# Altium footprint library DK_LOCK_V1.0.PcbLib: 19 footprints (part 1 of 2)
Each footprint in its own frame and in the unit in brackets; x right, y up, seen from the top. Pads: shape width x height; smd on the part's side, far side on the other; paste and mask are expansions set on the pad; w line width, h text height; cw(c..) or ccw(c..) is an arc to the next point about the centre after c.
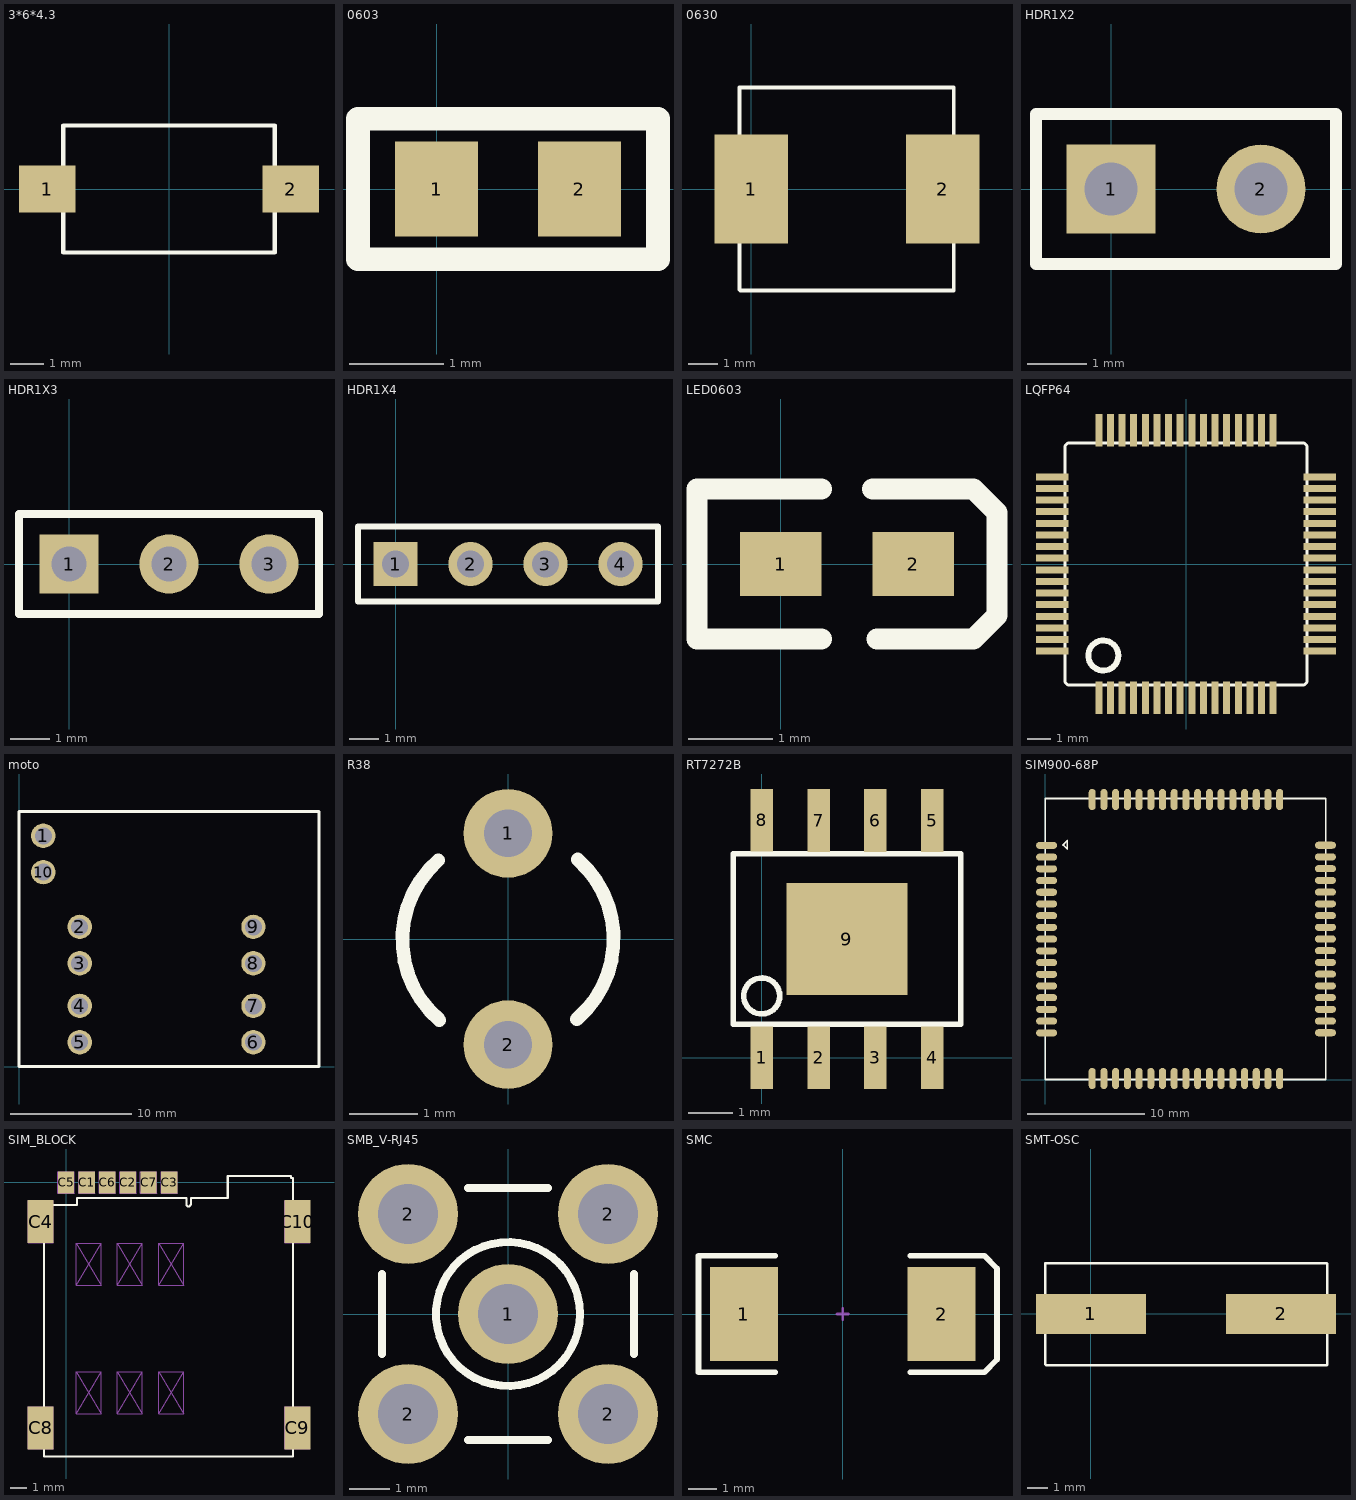
[diagram p0: the footprints below, top view; thin cyan lines are the x and y axes]

## 3*6*4.3 [mm]
pads (2):
  rect 1.7x1.4 smd: 1(-3.65,0) 2(3.65,0)
Top Overlay:
  lines w0.127: -3.175,-1.905 -3.175,1.905 3.175,1.905 3.175,-1.905 -3.175,-1.905

## 0603 [mil]
pads (2):
  rect 35x40 smd: 1(0,0) 2(60,0)
Top Overlay:
  lines w10: 10,-29.53 92.99,-29.53 92.99,29.53 10,29.53 ; 18,-29.53 -32.99,-29.53 -32.99,29.53 18,29.53

## 0630 [mm]
pads (2):
  rect 2.5x3.7 smd: 1(0,0) 2(6.5,0)
Top Overlay:
  lines w0.127: -0.408,-3.429 -0.408,3.454 6.882,3.454 6.882,-3.454 -0.382,-3.454

## HDR1X2 [mm] "Connector; Header; 2 Position"
pads (2):
  rect 1.5x1.5 hole 0.9: 1(0,0)
  round 1.5 hole 0.9: 2(2.54,0)
Top Overlay:
  lines w0.2: -1.27,-1.27 -1.27,1.27 3.81,1.27 3.81,-1.27 -1.27,-1.27

## HDR1X3 [mm] "Connector; Header; 3 Position"
pads (3):
  rect 1.5x1.5 hole 0.9: 1(0,0)
  round 1.5 hole 0.9: 2(2.54,0) 3(5.08,0)
Top Overlay:
  lines w0.2: -1.27,-1.27 -1.27,1.27 6.35,1.27 6.35,-1.27 -1.27,-1.27

## HDR1X4 [mm] "Connector; Header; 4 Position"
pads (4):
  rect 1.5x1.5 hole 0.9: 1(0,0)
  round 1.5 hole 0.9: 2(2.54,0) 3(5.08,0) 4(7.62,0)
Top Overlay:
  lines w0.2: -1.27,-1.27 8.89,-1.27 8.89,1.27 -1.27,1.27 -1.27,-1.27

## LED0603 [mil]
pads (2):
  rect 38x30 smd: 1(0,0) 2(62,0)
Top Overlay:
  lines w10: 19,-35 -39,-35 -39,35 19,35 ; 43,35 90,35 101,24 101,-24 90,-35 45,-35

## LQFP64 [mm]
pads (64):
  rect 0.3x1.4 smd: 1(-3.75,-5.75) 2(-3.25,-5.75) 3(-2.75,-5.75) 4(-2.25,-5.75) 5(-1.75,-5.75) 6(-1.25,-5.75) 7(-0.75,-5.75) 8(-0.25,-5.75) 9(0.25,-5.75) 10(0.75,-5.75) 11(1.25,-5.75) 12(1.75,-5.75) 13(2.25,-5.75) 14(2.75,-5.75) 15(3.25,-5.75) 16(3.75,-5.75) 33(3.75,5.75) 34(3.25,5.75) 35(2.75,5.75) 36(2.25,5.75) 37(1.75,5.75) 38(1.25,5.75) 39(0.75,5.75) 40(0.25,5.75) 41(-0.25,5.75) 42(-0.75,5.75) 43(-1.25,5.75) 44(-1.75,5.75) 45(-2.25,5.75) 46(-2.75,5.75) 47(-3.25,5.75) 48(-3.75,5.75)
  rect 1.4x0.3 smd: 17(5.75,-3.75) 18(5.75,-3.25) 19(5.75,-2.75) 20(5.75,-2.25) 21(5.75,-1.75) 22(5.75,-1.25) 23(5.75,-0.75) 24(5.75,-0.25) 25(5.75,0.25) 26(5.75,0.75) 27(5.75,1.25) 28(5.75,1.75) 29(5.75,2.25) 30(5.75,2.75) 31(5.75,3.25) 32(5.75,3.75) 49(-5.75,3.75) 50(-5.75,3.25) 51(-5.75,2.75) 52(-5.75,2.25) 53(-5.75,1.75) 54(-5.75,1.25) 55(-5.75,0.75) 56(-5.75,0.25) 57(-5.75,-0.25) 58(-5.75,-0.75) 59(-5.75,-1.25) 60(-5.75,-1.75) 61(-5.75,-2.25) 62(-5.75,-2.75) 63(-5.75,-3.25) 64(-5.75,-3.75)
Top Overlay:
  circle w0.254: c-3.556,-3.937 r0.648
  lines w0.127: -5.207,-5.08 -5.08,-5.207 5.08,-5.207 5.207,-5.08 5.207,5.08 5.08,5.207 -5.08,5.207 -5.207,5.08 -5.207,-5.08

## moto [mm]
pads (10):
  round 2 hole 1.4: 1(2,19) 2(5,11.5) 3(5,8.5) 4(5,5) 5(5,2) 6(19.3,2) 7(19.3,5) 8(19.3,8.5) 9(19.3,11.5) 10(2,16)
Top Overlay:
  lines w0.254: 0,0 0,21 24.7,21 24.7,0 0,0

## R38 [mm] "Crystal, Thru-Hole; 2 Leads; Body 3.1 x 8.2 mm (Dia.xH)"
height 8.2
pads (2):
  round 1.3 hole 0.7: 1(0,1.55) 2(0,-1.55)
Top Overlay:
  lines w0.2: -1.022,1.155 ccw(c0,-0.01) -1.006,-1.189 ; 1.006,-1.179 ccw(c0,0) 1.022,1.165

## RT7272B [mm]
pads (9):
  rect 0.5x1.4 smd: 1(0,0) 2(1.27,0) 3(2.54,0) 4(3.81,0) 5(3.81,5.3) 6(2.54,5.3) 7(1.27,5.3) 8(0,5.304)
  rect 2.7x2.5 smd: 9(1.905,2.65)
Top Overlay:
  circle w0.127: c0,1.38 r0.402
  lines w0.127: -0.635,0.745 -0.635,4.555 4.445,4.555 4.445,0.745 -0.635,0.745

## SIM900-68P [mm]
pads (68):
  oval 1.8x0.6 smd: 1(0.11,19.99) 2(0.11,18.99) 3(0.11,17.99) 4(0.11,16.99) 5(0.11,15.99) 6(0.11,14.99) 7(0.11,13.99) 8(0.11,12.99) 9(0.11,11.99) 10(0.11,10.99) 11(0.11,9.99) 12(0.11,8.99) 13(0.11,7.99) 14(0.11,6.99) 15(0.11,5.99) 16(0.11,4.99) 17(0.11,3.99) 35(23.9,4) 36(23.9,5) 37(23.9,6) 38(23.9,7) 39(23.9,8) 40(23.9,9) 41(23.9,10) 42(23.9,11) 43(23.9,12) 44(23.9,13) 45(23.9,14) 46(23.9,15) 47(23.9,16) 48(23.9,17) 49(23.9,18) 50(23.9,19) 51(23.9,20)
  oval 0.6x1.8 smd: 18(4,0.1) 19(5,0.1) 20(6,0.1) 21(7,0.1) 22(8,0.1) 23(9,0.1) 24(10,0.1) 25(11,0.1) 26(12,0.1) 27(13,0.1) 28(14,0.1) 29(15,0.1) 30(16,0.1) 31(17,0.1) 32(18,0.1) 33(19,0.1) 34(20,0.1) 52(20,23.9) 53(19,23.9) 54(18,23.9) 55(17,23.9) 56(16,23.9) 57(15,23.9) 58(14,23.9) 59(13,23.9) 60(12,23.9) 61(11,23.9) 62(10,23.9) 63(9,23.9) 64(8,23.9) 65(7,23.9) 66(6,23.9) 67(5,23.9) 68(4,23.9)
Top Overlay:
  lines w0.15: 1.48,20.01 1.88,20.41 1.88,19.68 1.51,20.05 ; -0.01,0.01 -0.01,24 23.92,24 23.92,0.01 -0.01,0.01

## SIM_BLOCK [mm]
pads (10):
  rect 1x1.35 smd: C1(1.27,0) C2(3.81,0) C3(6.35,0) C5(0,0) C6(2.54,0) C7(5.08,0)
  rect 1.6x2.65 smd: C4(-1.575,-2.413) C8(-1.575,-15.113) C9(14.249,-15.113) C10(14.249,-2.413)
Top Overlay:
  lines w0.127: -1.793,-16.155 -1.368,-16.155 -1.368,-16.872 13.961,-16.872 13.961,-16.155 14.386,-16.155 14.386,-14.052 13.961,-14.052 13.961,-3.478 14.386,-3.478 14.386,-1.375 13.961,-1.375 13.961,0.285 13.855,0.285 13.855,0.411 9.954,0.411 9.954,-0.965 7.68,-0.965 7.68,-1.337 cw(c7.542,-1.337) 7.404,-1.337 7.404,-0.965 0.668,-0.965 0.668,-1.375 -1.793,-1.375 -1.793,-3.478 -1.368,-3.478 -1.368,-14.052 -1.793,-14.052 -1.793,-16.155
Mechanical 1:
  lines w0.013: -2.335,-16.405 -0.785,-13.805 ; -2.335,-16.405 -2.335,-13.805 ; -2.335,-16.405 -0.785,-16.405 ; -2.335,-13.805 -0.785,-16.405 ; -2.335,-13.805 -0.785,-13.805 ; -2.335,-3.725 -0.785,-1.125 ; -2.335,-3.725 -2.335,-1.125 ; -2.335,-3.725 -0.785,-3.725 ; -2.335,-1.125 -0.785,-3.725 ; -2.335,-1.125 -0.785,-1.125 ; -0.785,-16.405 -0.785,-13.805 ; -0.785,-3.725 -0.785,-1.125 ; -0.5,-0.675 0.5,0.675 ; -0.5,-0.675 -0.5,0.675 ; -0.5,-0.675 0.5,-0.675 ; -0.5,0.675 0.5,-0.675 ; -0.5,0.675 0.5,0.675 ; 0.5,-0.675 0.5,0.675 ; 0.615,-14.255 2.165,-11.655 ; 0.615,-14.255 0.615,-11.655 ; 0.615,-14.255 2.165,-14.255 ; 0.615,-11.655 2.165,-14.255 ; 0.615,-11.655 2.165,-11.655 ; 0.615,-6.335 2.165,-3.735 ; 0.615,-6.335 0.615,-3.735 ; 0.615,-6.335 2.165,-6.335 ; 0.615,-3.735 2.165,-6.335 ; 0.615,-3.735 2.165,-3.735 ; 0.77,-0.675 1.77,0.675 ; 0.77,-0.675 0.77,0.675 ; 0.77,-0.675 1.77,-0.675 ; 0.77,0.675 1.77,-0.675 ; 0.77,0.675 1.77,0.675 ; 1.77,-0.675 1.77,0.675 ; 2.04,-0.675 3.04,0.675 ; 2.04,-0.675 2.04,0.675 ; 2.04,-0.675 3.04,-0.675 ; 2.04,0.675 3.04,-0.675 ; 2.04,0.675 3.04,0.675 ; 2.165,-14.255 2.165,-11.655 ; 2.165,-6.335 2.165,-3.735 ; 3.04,-0.675 3.04,0.675 ; 3.155,-14.255 4.705,-11.655 ; 3.155,-14.255 3.155,-11.655 ; 3.155,-14.255 4.705,-14.255 ; 3.155,-11.655 4.705,-14.255 ; 3.155,-11.655 4.705,-11.655 ; 3.155,-6.335 4.705,-3.735 ; 3.155,-6.335 3.155,-3.735 ; 3.155,-6.335 4.705,-6.335 ; 3.155,-3.735 4.705,-6.335 ; 3.155,-3.735 4.705,-3.735 ; 3.31,-0.675 4.31,0.675 ; 3.31,-0.675 3.31,0.675 ; 3.31,-0.675 4.31,-0.675 ; 3.31,0.675 4.31,-0.675 ; 3.31,0.675 4.31,0.675 ; 4.31,-0.675 4.31,0.675 ; 4.58,-0.675 5.58,0.675 ; 4.58,-0.675 4.58,0.675 ; 4.58,-0.675 5.58,-0.675 ; 4.58,0.675 5.58,-0.675 ; 4.58,0.675 5.58,0.675 ; 4.705,-14.255 4.705,-11.655 ; 4.705,-6.335 4.705,-3.735 ; 5.58,-0.675 5.58,0.675 ; 5.695,-14.255 7.245,-11.655 ; 5.695,-14.255 5.695,-11.655 ; 5.695,-14.255 7.245,-14.255 ; 5.695,-11.655 7.245,-14.255 ; 5.695,-11.655 7.245,-11.655 ; 5.695,-6.335 7.245,-3.735 ; 5.695,-6.335 5.695,-3.735 ; 5.695,-6.335 7.245,-6.335 ; 5.695,-3.735 7.245,-6.335 ; 5.695,-3.735 7.245,-3.735 ; 5.85,-0.675 6.85,0.675 ; 5.85,-0.675 5.85,0.675 ; 5.85,-0.675 6.85,-0.675 ; 5.85,0.675 6.85,-0.675 ; 5.85,0.675 6.85,0.675 ; 6.85,-0.675 6.85,0.675 ; 7.245,-14.255 7.245,-11.655 ; 7.245,-6.335 7.245,-3.735 ; 13.465,-16.405 15.015,-13.805 ; 13.465,-16.405 13.465,-13.805 ; 13.465,-16.405 15.015,-16.405 ; 13.465,-13.805 15.015,-16.405 ; 13.465,-13.805 15.015,-13.805 ; 13.465,-3.725 15.015,-1.125 ; 13.465,-3.725 13.465,-1.125 ; 13.465,-3.725 15.015,-3.725 ; 13.465,-1.125 15.015,-3.725 ; 13.465,-1.125 15.015,-1.125 ; 15.015,-16.405 15.015,-13.805 ; 15.015,-3.725 15.015,-1.125

## SMB_V-RJ45 [mm] "Connector; SMB Straight"
pads (5):
  round 2.5 hole 1.5: 1(0,0) 2(-2.5,-2.5) 2(-2.5,2.5) 2(2.5,-2.5) 2(2.5,2.5)
Top Overlay:
  circle w0.2: c0,0 r1.8
  lines w0.2: -3.15,-1 -3.15,1 ; -1,-3.15 1,-3.15 ; -1,3.15 1,3.15 ; 3.15,-1 3.15,1
Mechanical 1:
  circle w0.025: c0,0 r1.8
  circle w0.025: c0,0 r1.05
  circle w0.025: c0,0 r0.2

## SMC [mm] "DO-214-AB/SMC; 2 C-Bend Leads; Body 7.9 x 5.9 mm, inc. leads (LxW)"
height 2.65
pads (2):
  rect 2.4x3.3 smd: 1(-3.475,0) 2(3.475,0)
Top Overlay:
  lines w0.2: -2.375,-2.05 -5.075,-2.05 -5.075,2.05 -2.375,2.05 ; 2.375,-2.05 4.975,-2.05 5.425,-1.6 5.425,1.6 4.975,2.055 ; 2.375,2.05 4.975,2.05
Mechanical 1:
  lines w0.1: -0.2,0 0.2,0 ; 0,-0.2 0,0.2

## SMT-OSC [mm]
pads (2):
  rect 5.5x2 smd: 1(0,0) 2(9.5,0)
Top Overlay:
  lines w0.127: -2.286,-2.515 -2.286,2.54 11.786,2.54 11.811,2.515 11.811,-2.54 11.786,-2.565 -2.235,-2.565 -2.26,-2.54